# EAGLE library part QUBIQ_XBEE-SMT (library Micro2)
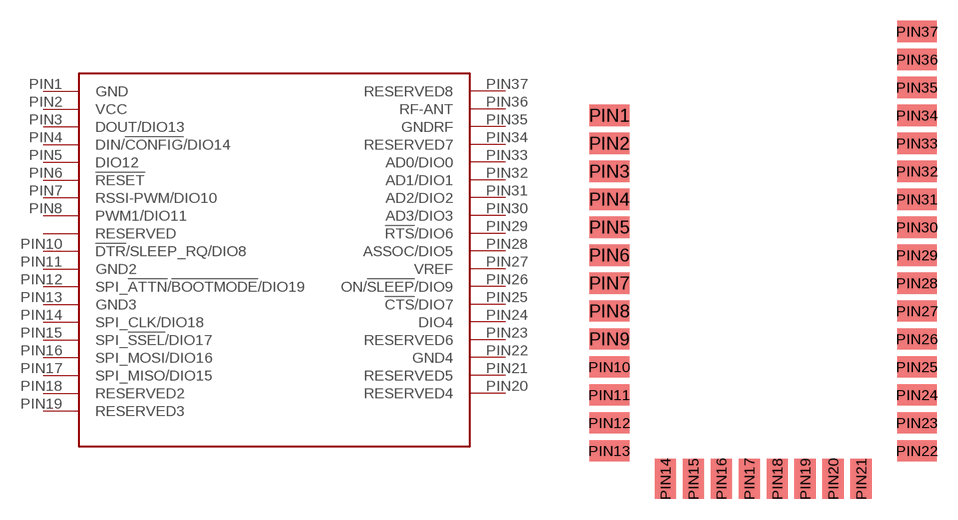
[diagram p7: symbol with the pads of QUBIQ_FLAT-RF; footprint QUBIQ_FLAT-RF]

Designator prefix -

## QUBIQ_XBEE-SMT  [QUBIQ_FLAT-RF]
PIN1  GND
PIN2  VCC
PIN3  DOUT/DIO13
PIN4  DIN/!CONFIG!/DIO14
PIN5  DIO12
PIN6  !RESET
PIN7  RSSI-PWM/DIO10
PIN8  PWM1/DIO11
PIN9  RESERVED  nc
PIN10  !DTR!/SLEEP_RQ/DIO8
PIN11  GND2  pwr
PIN12  SPI_!ATTN!/!BOOTMODE!/DIO19
PIN13  GND3
PIN14  SPI_CLK/DIO18
PIN15  SPI_!SSEL!/DIO17
PIN16  SPI_MOSI/DIO16
PIN17  SPI_MISO/DIO15
PIN18  RESERVED2  nc
PIN19  RESERVED3  nc
PIN20  RESERVED4  nc
PIN21  RESERVED5  nc
PIN22  GND4
PIN23  RESERVED6  nc
PIN24  DIO4
PIN25  !CTS!/DIO7
PIN26  ON/!SLEEP!/DIO9
PIN27  VREF
PIN28  ASSOC/DIO5
PIN29  !RTS!/DIO6
PIN30  AD3/DIO3
PIN31  AD2/DIO2
PIN32  AD1/DIO1
PIN33  AD0/DIO0
PIN34  RESERVED7  nc
PIN35  GNDRF
PIN36  RF-ANT
PIN37  RESERVED8  nc

## Footprint QUBIQ_FLAT-RF (pad centres in mm)
smd 2.845 x 1.524: PIN1 -22.073,10.033; PIN2 -22.073,8.026; PIN3 -22.073,6.02; PIN4 -22.073,4.013; PIN5 -22.073,2.007; PIN6 -22.073,0; PIN7 -22.073,-2.007; PIN8 -22.073,-4.013; PIN9 -22.073,-6.02; PIN10 -22.073,-8.026; PIN11 -22.073,-10.033; PIN12 -22.073,-12.04; PIN13 -22.073,-14.046; PIN22 0,-14.046; PIN23 0,-12.04; PIN24 0,-10.033; PIN25 0,-8.026; PIN26 0,-6.02; PIN27 0,-4.013; PIN28 0,-2.007; PIN29 0,0; PIN30 0,2.007; PIN31 0,4.013; PIN32 0,6.02; PIN33 0,8.026; PIN34 0,10.033; PIN35 0,12.04; PIN36 0,14.046; PIN37 0,16.053
smd 1.524 x 2.845: PIN14 -18.059,-16.053; PIN15 -16.053,-16.053; PIN16 -14.046,-16.053; PIN17 -12.04,-16.053; PIN18 -10.033,-16.053; PIN19 -8.026,-16.053; PIN20 -6.02,-16.053; PIN21 -4.013,-16.053